# EAGLE library part XILINNX-5FXT-EXP-CONNECTOR (library 1A-meinLib)
0,80mm HI-SPEED SOCKET QSE Serie Source: http://www.samtec.com/ftppub/cpdf/QSE-XXX-01-X-D-XX-FOOTPRINT.pdf http://www.samtec.com/ftppub/pdf/QSE.PDF
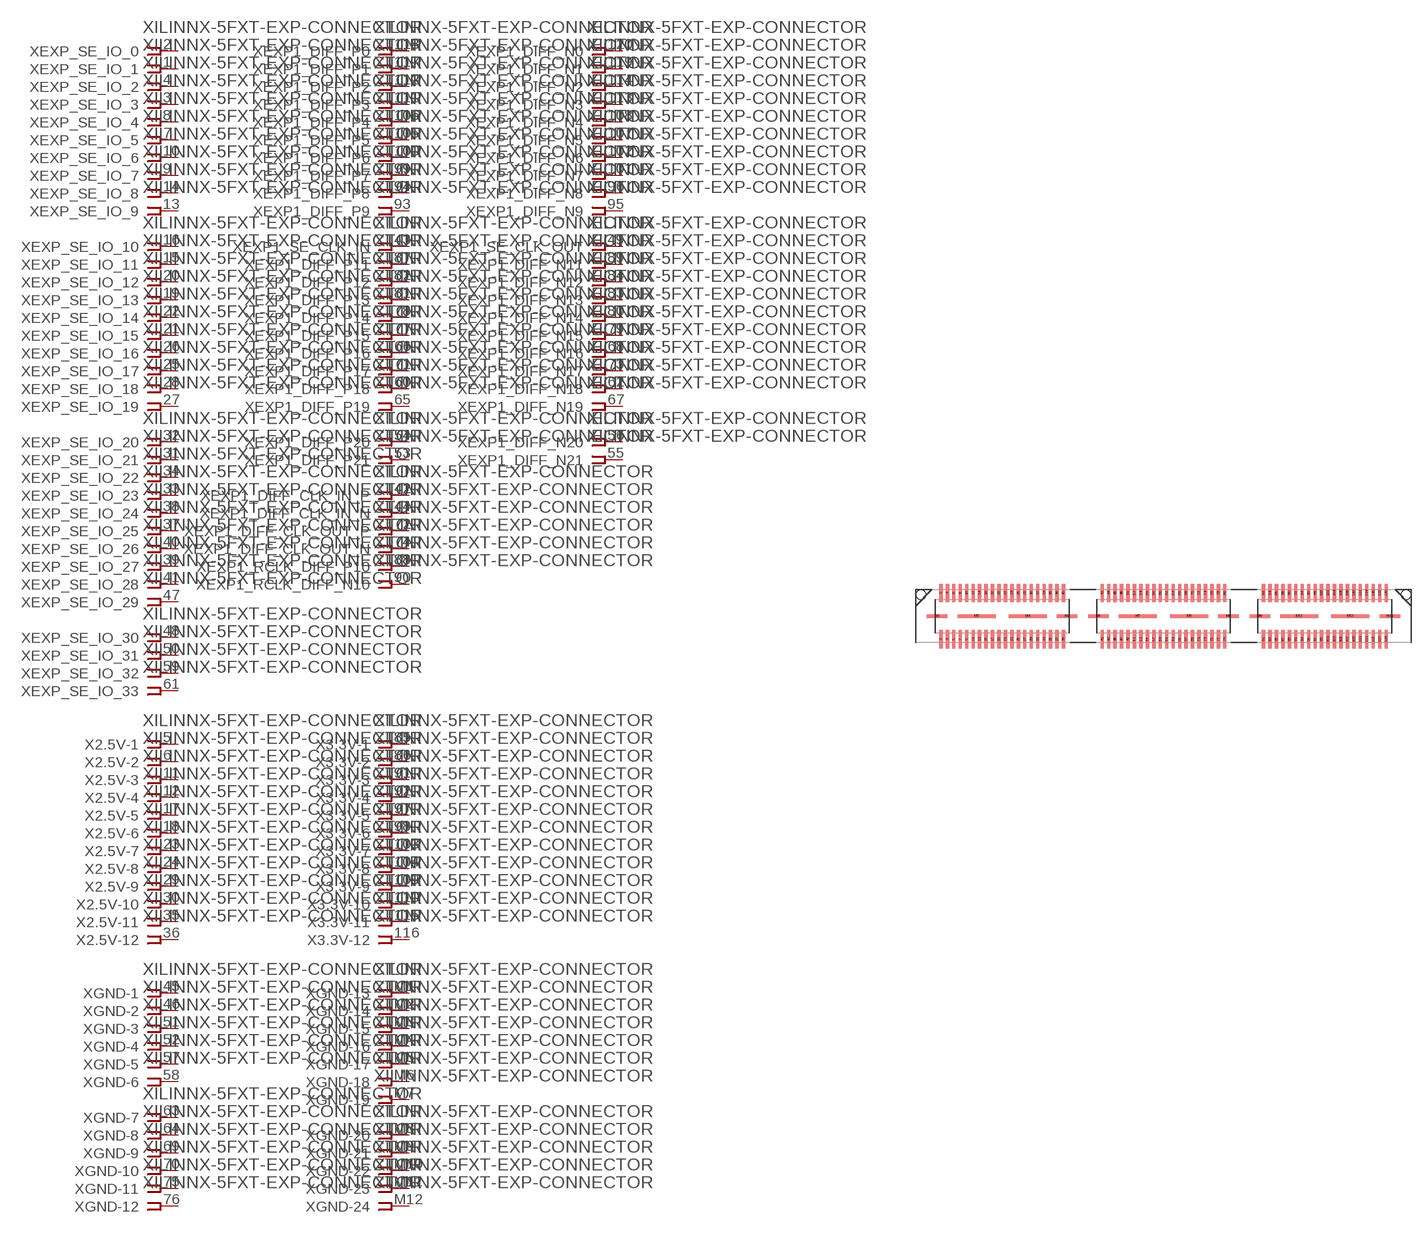
[diagram p384: symbol with the pads of QSE-060-01; footprint QSE-060-01]

Designator prefix X; gates EXP_SE_IO_0=FPINV EXP_SE_IO_1=FPINV EXP_SE_IO_2=FPINV EXP_SE_IO_3=FPINV EXP_SE_IO_4=FPINV EXP_SE_IO_5=FPINV EXP_SE_IO_6=FPINV EXP_SE_IO_7=FPINV EXP_SE_IO_8=FPINV EXP_SE_IO_9=FPINV EXP_SE_IO_10=FPINV EXP_SE_IO_11=FPINV EXP_SE_IO_12=FPINV EXP_SE_IO_13=FPINV EXP_SE_IO_14=FPINV EXP_SE_IO_15=FPINV EXP_SE_IO_16=FPINV EXP_SE_IO_17=FPINV EXP_SE_IO_18=FPINV EXP_SE_IO_19=FPINV EXP_SE_IO_20=FPINV EXP_SE_IO_21=FPINV EXP_SE_IO_22=FPINV EXP_SE_IO_23=FPINV EXP_SE_IO_24=FPINV EXP_SE_IO_25=FPINV EXP_SE_IO_26=FPINV EXP_SE_IO_27=FPINV EXP_SE_IO_28=FPINV EXP_SE_IO_29=FPINV EXP_SE_IO_30=FPINV EXP_SE_IO_31=FPINV 2.5V-1=FPINV 2.5V-2=FPINV 2.5V-3=FPINV 2.5V-4=FPINV 2.5V-5=FPINV 2.5V-6=FPINV 2.5V-7=FPINV 2.5V-8=FPINV 2.5V-9=FPINV 2.5V-10=FPINV 2.5V-11=FPINV 2.5V-12=FPINV GND-1=FPINV GND-2=FPINV GND-3=FPINV GND-4=FPINV GND-5=FPINV GND-6=FPINV GND-7=FPINV GND-8=FPINV GND-9=FPINV GND-10=FPINV GND-11=FPINV GND-12=FPINV EXP1_DIFF_P0=FPINV EXP1_DIFF_P1=FPINV EXP1_DIFF_P2=FPINV EXP1_DIFF_P3=FPINV EXP1_DIFF_P4=FPINV EXP1_DIFF_P5=FPINV EXP1_DIFF_P6=FPINV EXP1_DIFF_P7=FPINV EXP1_DIFF_P8=FPINV EXP1_DIFF_P9=FPINV EXP1_SE_CLK_IN=FPINV EXP1_DIFF_P11=FPINV EXP1_DIFF_P12=FPINV EXP1_DIFF_P13=FPINV EXP1_DIFF_P14=FPINV EXP1_DIFF_P15=FPINV EXP1_DIFF_P16=FPINV EXP1_DIFF_P17=FPINV EXP1_DIFF_P18=FPINV EXP1_DIFF_P19=FPINV EXP1_DIFF_N0=FPINV EXP1_DIFF_N1=FPINV EXP1_DIFF_N2=FPINV EXP1_DIFF_N3=FPINV EXP1_DIFF_N4=FPINV EXP1_DIFF_N5=FPINV EXP1_DIFF_N6=FPINV EXP1_DIFF_N7=FPINV EXP1_DIFF_N8=FPINV EXP1_DIFF_N9=FPINV EXP1_SE_CLK_OUT=FPINV EXP1_DIFF_N11=FPINV EXP1_DIFF_N12=FPINV EXP1_DIFF_N13=FPINV EXP1_DIFF_N14=FPINV EXP1_DIFF_N15=FPINV EXP1_DIFF_N16=FPINV EXP1_DIFF_N17=FPINV EXP1_DIFF_N18=FPINV EXP1_DIFF_N19=FPINV EXP_SE_IO_32=FPINV EXP_SE_IO_33=FPINV EXP1_DIFF_P20=FPINV EXP1_DIFF_P21=FPINV 3.3V-1=FPINV 3.3V-2=FPINV 3.3V-3=FPINV 3.3V-4=FPINV EXP1_DIFF_N20=FPINV EXP1_DIFF_N21=FPINV 3.3V-5=FPINV 3.3V-6=FPINV 3.3V-7=FPINV 3.3V-8=FPINV 3.3V-9=FPINV 3.3V-10=FPINV 3.3V-11=FPINV 3.3V-12=FPINV GND-13=FPINV GND-14=FPINV GND-15=FPINV GND-16=FPINV GND-17=FPINV GND-18=FPINV GND-19=FPINV GND-20=FPINV GND-21=FPINV GND-22=FPINV GND-23=FPINV GND-24=FPINV EXP1_DIFF_CLK_IN_P=FPINV EXP1_DIFF_CLK_IN_N=FPINV EXP1_DIFF_CLK_OUT_P=FPINV EXP1_DIFF_CLK_OUT_N=FPINV EXP1_RCLK_DIFF_P10=FPINV EXP1_RCLK_DIFF_N10=FPINV

## XILINNX-5FXT-EXP-CONNECTOR  [QSE-060-01]
1  EXP_SE_IO_1:1  pas
2  EXP_SE_IO_0:1  pas
3  EXP_SE_IO_3:1  pas
4  EXP_SE_IO_2:1  pas
5  2.5V-1:1  pas
6  2.5V-2:1  pas
7  EXP_SE_IO_5:1  pas
8  EXP_SE_IO_4:1  pas
9  EXP_SE_IO_7:1  pas
10  EXP_SE_IO_6:1  pas
11  2.5V-3:1  pas
12  2.5V-4:1  pas
13  EXP_SE_IO_9:1  pas
14  EXP_SE_IO_8:1  pas
15  EXP_SE_IO_11:1  pas
16  EXP_SE_IO_10:1  pas
17  2.5V-5:1  pas
18  2.5V-6:1  pas
19  EXP_SE_IO_13:1  pas
20  EXP_SE_IO_12:1  pas
21  EXP_SE_IO_15:1  pas
22  EXP_SE_IO_14:1  pas
23  2.5V-7:1  pas
24  2.5V-8:1  pas
25  EXP_SE_IO_17:1  pas
26  EXP_SE_IO_16:1  pas
27  EXP_SE_IO_19:1  pas
28  EXP_SE_IO_18:1  pas
29  2.5V-9:1  pas
30  2.5V-10:1  pas
31  EXP_SE_IO_21:1  pas
32  EXP_SE_IO_20:1  pas
33  EXP_SE_IO_23:1  pas
34  EXP_SE_IO_22:1  pas
35  2.5V-11:1  pas
36  2.5V-12:1  pas
37  EXP_SE_IO_25:1  pas
38  EXP_SE_IO_24:1  pas
39  EXP_SE_IO_27:1  pas
40  EXP_SE_IO_26:1  pas
41  EXP_SE_IO_28:1  pas
42  EXP1_DIFF_CLK_IN_P:1  pas
43  EXP1_SE_CLK_IN:1  pas
44  EXP1_DIFF_CLK_IN_N:1  pas
45  GND-1:1  pas
46  GND-2:1  pas
47  EXP_SE_IO_29:1  pas
48  EXP_SE_IO_30:1  pas
49  EXP1_SE_CLK_OUT:1  pas
50  EXP_SE_IO_31:1  pas
51  GND-3:1  pas
52  GND-4:1  pas
53  EXP1_DIFF_P21:1  pas
54  EXP1_DIFF_P20:1  pas
55  EXP1_DIFF_N21:1  pas
56  EXP1_DIFF_N20:1  pas
57  GND-5:1  pas
58  GND-6:1  pas
59  EXP_SE_IO_32:1  pas
60  EXP1_DIFF_P18:1  pas
61  EXP_SE_IO_33:1  pas
62  EXP1_DIFF_N18:1  pas
63  GND-7:1  pas
64  GND-8:1  pas
65  EXP1_DIFF_P19:1  pas
66  EXP1_DIFF_P16:1  pas
67  EXP1_DIFF_N19:1  pas
68  EXP1_DIFF_N16:1  pas
69  GND-9:1  pas
70  GND-10:1  pas
71  EXP1_DIFF_P17:1  pas
72  EXP1_DIFF_CLK_OUT_P:1  pas
73  EXP1_DIFF_N17:1  pas
74  EXP1_DIFF_CLK_OUT_N:1  pas
75  GND-11:1  pas
76  GND-12:1  pas
77  EXP1_DIFF_P15:1  pas
78  EXP1_DIFF_P14:1  pas
79  EXP1_DIFF_N15:1  pas
80  EXP1_DIFF_N14:1  pas
81  EXP1_DIFF_P13:1  pas
82  EXP1_DIFF_P12:1  pas
83  EXP1_DIFF_N13:1  pas
84  EXP1_DIFF_N12:1  pas
85  3.3V-1:1  pas
86  3.3V-2:1  pas
87  EXP1_DIFF_P11:1  pas
88  EXP1_RCLK_DIFF_P10:1  pas
89  EXP1_DIFF_N11:1  pas
90  EXP1_RCLK_DIFF_N10:1  pas
91  3.3V-3:1  pas
92  3.3V-4:1  pas
93  EXP1_DIFF_P9:1  pas
94  EXP1_DIFF_P8:1  pas
95  EXP1_DIFF_N9:1  pas
96  EXP1_DIFF_N8:1  pas
97  3.3V-5:1  pas
98  3.3V-6:1  pas
99  EXP1_DIFF_P7:1  pas
100  EXP1_DIFF_P6:1  pas
101  EXP1_DIFF_N7:1  pas
102  EXP1_DIFF_N6:1  pas
103  3.3V-7:1  pas
104  3.3V-8:1  pas
105  EXP1_DIFF_P5:1  pas
106  EXP1_DIFF_P4:1  pas
107  EXP1_DIFF_N5:1  pas
108  EXP1_DIFF_N4:1  pas
109  3.3V-9:1  pas
110  3.3V-10:1  pas
111  EXP1_DIFF_P3:1  pas
112  EXP1_DIFF_P2:1  pas
113  EXP1_DIFF_N3:1  pas
114  EXP1_DIFF_N2:1  pas
115  3.3V-11:1  pas
116  3.3V-12:1  pas
117  EXP1_DIFF_P1:1  pas
118  EXP1_DIFF_P0:1  pas
119  EXP1_DIFF_N1:1  pas
120  EXP1_DIFF_N0:1  pas
M1  GND-13:1  pas
M2  GND-14:1  pas
M3  GND-15:1  pas
M4  GND-16:1  pas
M5  GND-17:1  pas
M6  GND-18:1  pas
M7  GND-19:1  pas
M8  GND-20:1  pas
M9  GND-21:1  pas
M10  GND-22:1  pas
M11  GND-23:1  pas
M12  GND-24:1  pas

## Footprint QSE-060-01 (pad centres in mm)
QSE-060-01-L-D-A, High Speed Ground Plate Socked, samtec
smd 0.41 x 2.27: 1 -27.595,-2.86; 2 -27.595,2.87; 3 -26.795,-2.86; 4 -26.795,2.87; 5 -25.995,-2.86; 6 -25.995,2.87; 7 -25.195,-2.86; 8 -25.195,2.87; 9 -24.395,-2.86; 10 -24.395,2.87; 11 -23.595,-2.86; 12 -23.595,2.87; 13 -22.795,-2.86; 14 -22.795,2.87; 15 -21.995,-2.86; 16 -21.995,2.87; 17 -21.195,-2.86; 18 -21.195,2.87; 19 -20.395,-2.86; 20 -20.395,2.87; 21 -19.595,-2.86; 22 -19.595,2.87; 23 -18.795,-2.86; 24 -18.795,2.87; 25 -17.995,-2.86; 26 -17.995,2.87; 27 -17.195,-2.86; 28 -17.195,2.87; 29 -16.395,-2.86; 30 -16.395,2.87; 31 -15.595,-2.86; 32 -15.595,2.87; 33 -14.795,-2.86; 34 -14.795,2.87; 35 -13.995,-2.86; 36 -13.995,2.87; 37 -13.195,-2.86; 38 -13.195,2.87; 39 -12.395,-2.86; 40 -12.395,2.87; 41 -7.595,-2.86; 42 -7.595,2.87; 43 -6.795,-2.86; 44 -6.795,2.87; 45 -5.995,-2.86; 46 -5.995,2.87; 47 -5.195,-2.86; 48 -5.195,2.87; 49 -4.395,-2.86; 50 -4.395,2.87; 51 -3.595,-2.86; 52 -3.595,2.87; 53 -2.795,-2.86; 54 -2.795,2.87; 55 -1.995,-2.86; 56 -1.995,2.87; 57 -1.195,-2.86; 58 -1.195,2.87; 59 -0.395,-2.86; 60 -0.395,2.87; 61 0.405,-2.86; 62 0.405,2.87; 63 1.205,-2.86; 64 1.205,2.87; 65 2.005,-2.86; 66 2.005,2.87; 67 2.805,-2.86; 68 2.805,2.87; 69 3.605,-2.86; 70 3.605,2.87; 71 4.405,-2.86; 72 4.405,2.87; 73 5.205,-2.86; 74 5.205,2.87; 75 6.005,-2.86; 76 6.005,2.87; 77 6.805,-2.86; 78 6.805,2.87; 79 7.605,-2.86; 80 7.605,2.87; 81 12.405,-2.86; 82 12.405,2.87; 83 13.205,-2.86; 84 13.205,2.87; 85 14.005,-2.86; 86 14.005,2.87; 87 14.805,-2.86; 88 14.805,2.87; 89 15.605,-2.86; 90 15.605,2.87; 91 16.405,-2.86; 92 16.405,2.87; 93 17.205,-2.86; 94 17.205,2.87; 95 18.005,-2.86; 96 18.005,2.87; 97 18.805,-2.86; 98 18.805,2.87; 99 19.605,-2.86; 100 19.605,2.87; 101 20.405,-2.86; 102 20.405,2.87; 103 21.205,-2.86; 104 21.205,2.87; 105 22.005,-2.86; 106 22.005,2.87; 107 22.805,-2.86; 108 22.805,2.87; 109 23.605,-2.86; 110 23.605,2.87; 111 24.405,-2.86; 112 24.405,2.87; 113 25.205,-2.86; 114 25.205,2.87; 115 26.005,-2.86; 116 26.005,2.87; 117 26.805,-2.86; 118 26.805,2.87; 119 27.605,-2.86; 120 27.605,2.87
smd 2.54 x 0.43: M1 -28.065,0; M2 -11.935,0; M5 -8.065,0; M6 8.065,0; M9 11.935,0; M10 28.065,0
smd 4.7 x 0.43: M3 -23.175,0; M4 -16.825,0; M7 -3.175,0; M8 3.175,0; M11 16.825,0; M12 23.175,0
hole 1.2 at 30.06,2.67
hole 1.2 at -30.06,2.67